# Altium schematic symbol library 0603 Capacitor.SchLib: 1 symbol
Pins are listed as number, name and electrical type; pins without a type are passive.

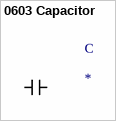
[diagram p0: symbol 0603 Capacitor]

## 0603 Capacitor
designator C
footprint 0603 Capacitor (Chip Capacitor, 2-Leads, Body 1.50x0.80mm, IPC Medium Density)
pins: 1, 2